# Altium footprint library PcbLib1.PcbLib: 29 footprints (part 2 of 2)
Each footprint in its own frame and in the unit in brackets; x right, y up, seen from the top. Pads: shape width x height; smd on the part's side, far side on the other; paste and mask are expansions set on the pad; w line width, h text height; cw(c..) or ccw(c..) is an arc to the next point about the centre after c.
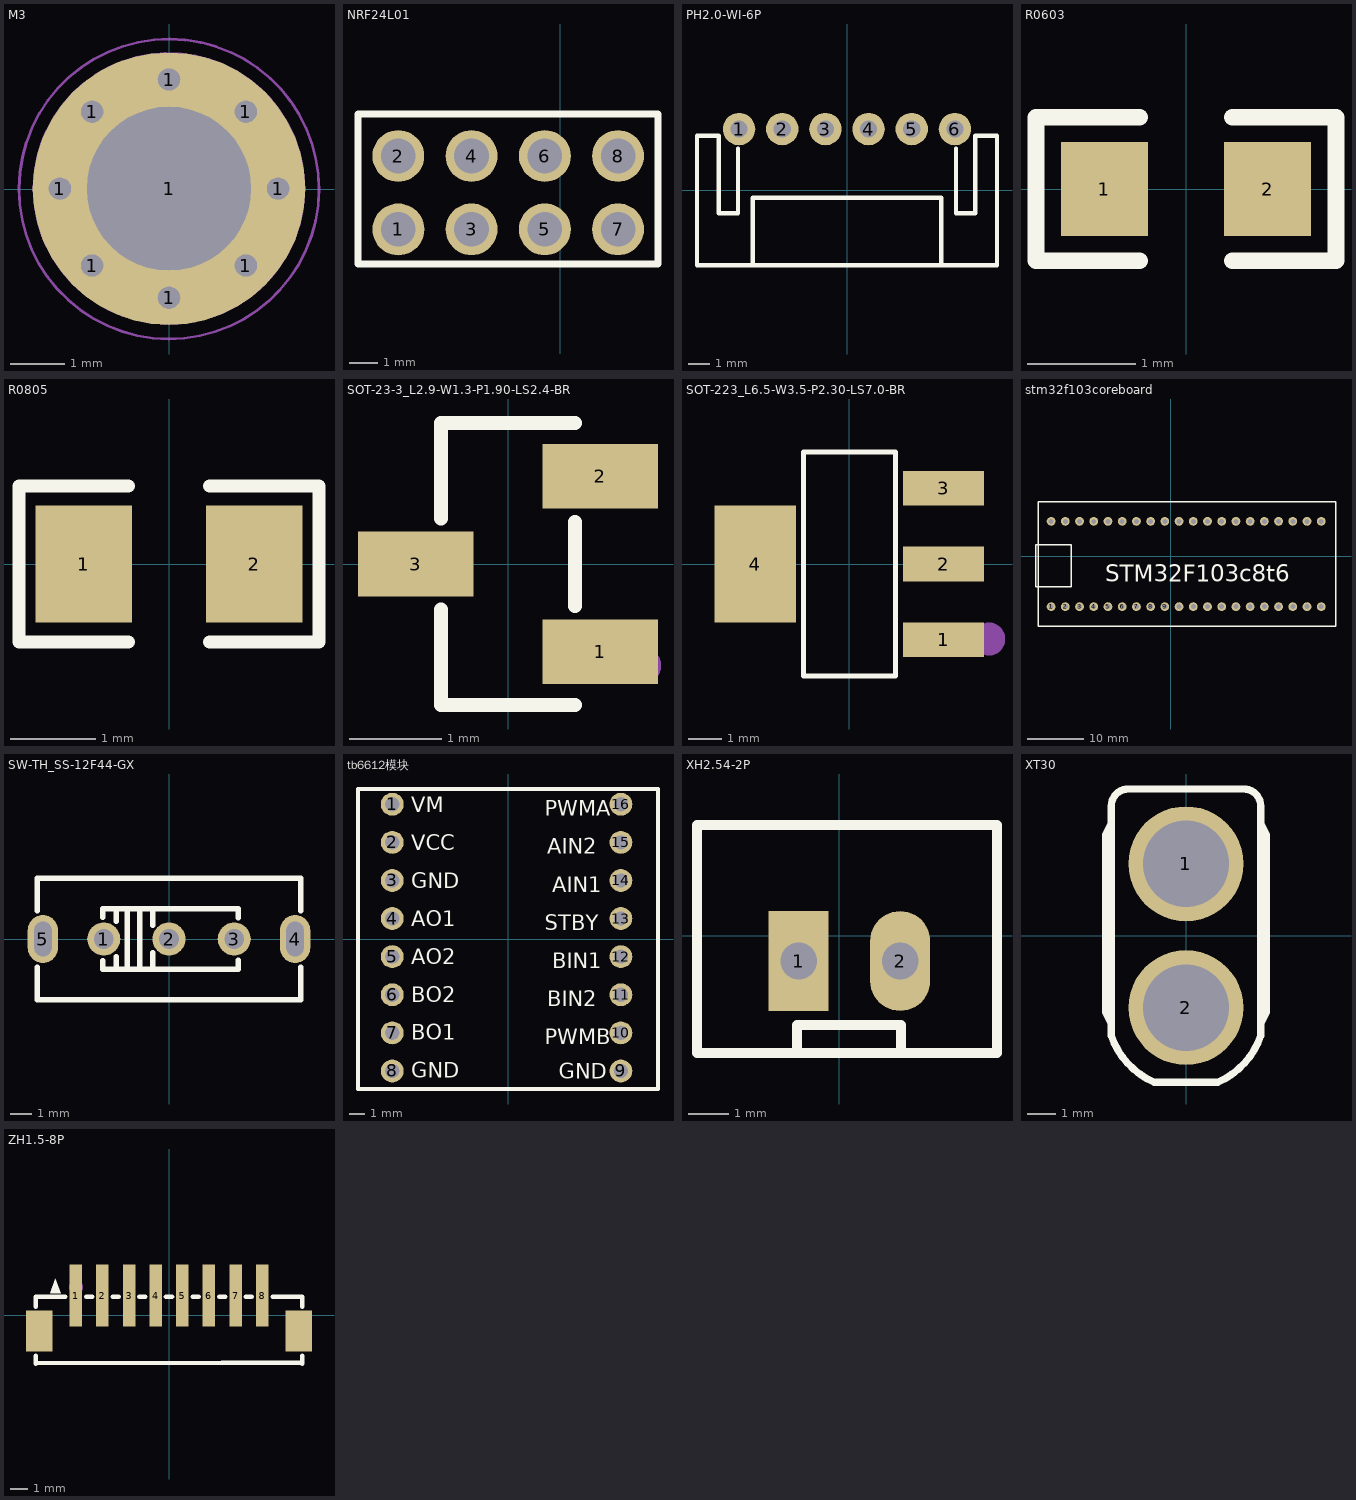
[diagram p1: the footprints below, top view; thin cyan lines are the x and y axes]

## M3 [mm]
pads (9):
  round 0.6 hole 0.4 slot 0.405 at 0 deg paste+0 mask+0.051: 1(-2,0.007) 1(-1.41,-1.403) 1(-1.41,1.417) 1(0,-1.993) 1(0,2.007) 1(1.41,-1.403) 1(1.41,1.417) 1(2,0.007)
  round 5 hole 3 slot 3.005 at 0 deg paste+0 mask+0.051: 1(0,0.007)
Mechanical 1:
  lines w0.05: -2.75,0.007 ccw(c0,0) -2.75,0.014 ; -0.35,0.007 0.35,0.007 ; -0.25,0.007 ccw(c0,0.007) -0.25,0.013 ; 0,-0.343 0,0.357
  lines w0.12: -2.44,0.007 ccw(c0,0.01) -2.44,0.013 cw(c0,0.01) -2.44,0.007 ; -1.44,0.007 ccw(c0,0.006) -1.44,0.015 cw(c0,0.006) -1.44,0.007

## NRF24L01 [mm]
pads (8):
  round 1.8 hole 1.2 paste+0 mask+0.051: 1(-5.606,-12.799) 2(-5.608,-10.256) 3(-3.068,-12.796) 4(-3.068,-10.256) 5(-0.528,-12.796) 6(-0.528,-10.256) 7(2.012,-12.796) 8(2.012,-10.256)
Top Overlay:
  lines w0.254: -7.004,-14 3.396,-14 3.396,-8.8 -7.004,-8.8 -7.004,-14

## PH2.0-WI-6P [mm]
pads (6):
  round 1.5 hole 0.8 paste+0 mask+0.051: 1(-5,2.826) 2(-3,2.826) 3(-1,2.826) 4(1,2.826) 5(3,2.826) 6(5,2.826)
Top Overlay:
  lines w0.203: -5.05,1.926 -5.05,-1.074 -5.95,-1.074 -5.95,-0.474 -5.95,2.526 -6,2.526 -6.95,2.526 -6.95,-3.474 6.95,-3.474 6.95,2.526 6,2.526 5.95,2.526 5.95,-0.474 5.95,-1.074 5.05,-1.074 5.05,1.926 ; -4.365,-3.389 -4.365,-0.349 4.365,-0.349 4.365,-3.389

## R0603 [mil]
pads (2):
  rect 31.75x34.02 smd paste-3937.01 mask+2: 1(-29.66,0) 2(29.66,0)
Top Overlay:
  lines w6: -16.78,-26.01 -54.53,-26.01 -54.53,26.01 -16.78,26.01 ; 16.78,-26.01 54.53,-26.01 54.53,26.01 16.78,26.01
Top Paste:
  region: -13.98,15.75 -13.98,6.77 -28.94,6.77 -28.94,-6.22 -13.98,-6.22 -13.98,-15.75 -15.94,-17.72 -47.05,-17.72 -49.02,-15.75 -49.02,15.75 -47.05,17.72 -15.94,17.72
  region: 47.05,17.72 15.55,17.72 13.58,15.75 13.58,6.77 28.15,6.77 28.15,-6.22 13.58,-6.22 13.58,-15.75 15.55,-17.72 47.05,-17.72 49.02,-15.75 49.02,15.75

## R0805 [mil]
pads (2):
  rect 44.59x54.21 smd paste-3937.01 mask+2: 1(-39.37,0) 2(39.37,0)
Top Overlay:
  lines w6: -18.75,-36.11 -69.34,-36.11 -69.34,36.11 -18.75,36.11 ; 18.75,-36.11 69.34,-36.11 69.34,36.11 18.75,36.11
Top Paste:
  region: 17.72,-25.2 17.72,-8.66 35.24,-8.66 35.24,9.05 17.91,9.05 17.72,25.2 19.68,27.16 64.96,27.16 66.93,25.2 66.93,-25.2 64.96,-27.17 19.68,-27.17
  region: -66.93,-25.2 -66.93,25.2 -64.96,27.16 -19.68,27.16 -17.72,25.2 -17.52,9.05 -35.24,9.05 -35.24,-8.66 -17.91,-8.66 -17.72,-25.2 -19.68,-27.17 -64.96,-27.17

## SOT-23-3_L2.9-W1.3-P1.90-LS2.4-BR [mm]
pads (3):
  rect 1.25x0.7 smd paste+0 mask+0.051: 1(1,-0.95) 2(1,0.95) 3(-1,0)
Top Overlay:
  lines w0.152: -0.726,-0.495 -0.726,-1.526 0.726,-1.526 ; -0.726,0.495 -0.726,1.526 0.726,1.526 ; 0.726,-0.455 0.726,0.455
Mechanical 15:
  circle w0.2: c1.46,-1.1 r0.1

## SOT-223_L6.5-W3.5-P2.30-LS7.0-BR [mm]
pads (4):
  rect 2.465x1.05 smd paste+0 mask+0.051: 1(2.857,-2.3) 2(2.857,0) 3(2.857,2.3)
  rect 2.465x3.54 smd paste+0 mask+0.051: 4(-2.857,0)
Top Overlay:
  lines w0.152: -1.396,-3.401 -1.396,3.401 1.396,3.401 1.396,-3.401 -1.396,-3.401
Mechanical 15:
  circle w0.5: c4.229,-2.277 r0.25

## stm32f103coreboard [mil]
pads (40):
  round 62 hole 35 paste+0 mask+4: 1(-841.69,-355) 2(-741.69,-355) 3(-641.69,-355) 4(-541.69,-355) 5(-441.69,-355) 6(-341.69,-355) 7(-241.69,-355) 8(-141.69,-355) 9(-41.69,-355) 10(58.31,-355) 11(158.31,-355) 12(258.31,-355) 13(358.31,-355) 14(458.31,-355) 15(558.31,-355) 16(658.31,-355) 17(758.31,-355) 18(858.31,-355) 19(958.31,-355) 20(1058.31,-355) 21(1058.31,245) 22(958.31,245) 23(858.31,245) 24(758.31,245) 25(658.31,245) 26(558.31,245) 27(458.31,245) 28(358.31,245) 29(258.31,245) 30(158.31,245) 31(58.31,245) 32(-41.69,245) 33(-141.69,245) 34(-241.69,245) 35(-341.69,245) 36(-441.69,245) 37(-541.69,245) 38(-641.69,245) 39(-741.69,245) 40(-841.69,245)
Top Overlay:
  lines w10: -947.99,-215 -947.99,80.28 -699.96,80.28 -699.96,-215 -947.99,-215 ; -932.24,-492.01 -932.24,382.01 1162.25,382.01 1162.25,-492.01 -932.24,-492.01
  text "STM32F103c8t6" at -460,-179.06 h118.11

## SW-TH_SS-12F44-GX [mm]
pads (5):
  round 1.524 hole 0.914 paste+0 mask+0.051: 1(-3,0) 2(0,0) 3(3,0)
  oval 1.4x2.2 hole 0.8 slot 1.6 at 90 deg paste+0 mask+0.051: 4(5.8,0) 5(-5.8,0)
Top Overlay:
  lines w0.254: -6.05,-1.297 -6.05,-2.8 6.05,-2.8 6.05,-1.297 ; -6.05,1.297 -6.05,2.8 6.05,2.8 6.05,1.297 ; -3.048,-0.992 -3.048,-1.397 3.175,-1.397 3.175,-0.978 ; -3.048,0.992 -3.048,1.397 3.175,1.397 3.175,0.978 ; -2.427,-1.397 -2.427,-0.81 ; -2.427,0.81 -2.427,1.397 ; -1.919,-1.397 -1.919,1.397 ; -1.356,-1.397 -1.356,1.397 ; -0.758,-1.397 -0.758,-0.641 ; -0.758,0.641 -0.758,1.397

## tb6612模块 [mil]
pads (16):
  round 60 hole 36 slot 36.2 at 0 deg paste+0 mask+2: 1(-303.7,353.7) 2(-303.7,253.7) 3(-303.7,153.7) 4(-303.7,53.7) 5(-303.7,-46.3) 6(-303.7,-146.3) 7(-303.7,-246.3) 8(-303.7,-346.3) 9(296.3,-346.3) 10(296.3,-246.3) 11(296.3,-146.3) 12(296.3,-46.3) 13(296.3,53.7) 14(296.3,153.7) 15(296.3,253.7) 16(296.3,353.7)
Top Overlay:
  lines w10: -393.7,-393.7 -393.7,393.7 393.7,393.7 393.7,-393.7 -393.7,-393.7
  text "VCC" at -253.7,233.32 h40
  text "AO1" at -253.7,33.96 h40
  text "AO2" at -253.7,-65.72 h40
  text "VM" at -253.7,333 h40
  text "GND" at -253.7,-364.76 h40
  text "GND" at 133,-367 h40
  text "PWMB" at 96.3,-276.4 h40
  text "BIN2" at 102.96,-176.5 h40
  text "BIN1" at 116.29,-76.6 h40
  text "STBY" at 96.3,23.3 h40
  text "AIN1" at 116.29,123.2 h40
  text "AIN2" at 102.96,223.1 h40
  text "PWMA" at 96.3,323 h40
  text "GND" at -253.7,133.64 h40
  text "BO2" at -253.7,-165.4 h40
  text "BO1" at -253.7,-265.08 h40

## XH2.54-2P [mm]
pads (2):
  rect 1.5x2.5 hole 0.914 paste+0 mask+0.102: 1(-1.016,-0.635)
  oval 1.5x2.5 hole 0.914 paste+0 mask+0.102: 2(1.523,-0.635)
Top Overlay:
  lines w0.254: -3.557,-2.935 3.944,-2.935 3.944,2.765 -3.557,2.765 -3.557,-2.935 ; -1.056,-2.935 1.544,-2.935 1.544,-2.235 -1.056,-2.235 -1.056,-2.935

## XT30 [mm]
pads (2):
  round 4 hole 3 paste+0 mask+0.102: 1(0,2.5) 2(0,-2.5)
Top Overlay:
  lines w0.254: -2.6,-3.05 -2.8,-2.65 -2.8,3.5 -2.6,3.9 ; 2.6,-3.05 2.8,-2.65 2.8,3.5 2.6,3.9 ; -2.6,-3.475 ccw(c0,-2.58) -1.1,-5.1 1.1,-5.1 ccw(c0,-2.58) 2.6,-3.475 2.6,4.5 ccw(c2,4.5) 2,5.1 -2,5.1 ccw(c-2,4.5) -2.6,4.5 -2.6,-3.475

## ZH1.5-8P [mm]
pads (10):
  rect 0.7x3.5 smd paste+0 mask+0.051: 1(-5.25,1.104) 2(-3.75,1.104) 3(-2.25,1.104) 4(-0.75,1.104) 5(0.75,1.104) 6(2.25,1.104) 7(3.75,1.104) 8(5.25,1.104)
  rect 1.5x2.3 smd paste+0 mask+0.051: ""(-7.3,-0.896) ""(7.3,-0.896)
Top Overlay:
  region: -6.7,1.244 -6.1,1.244 -6.4,2.044
  lines w0.254: -7.5,-2.727 -7.5,-2.277 ; -7.5,0.485 -7.5,1.023 -5.831,1.023 ; -7.478,-2.716 2.979,-2.695 7.5,-2.695 ; -4.669,1.023 -4.331,1.023 ; -3.169,1.023 -2.831,1.023 ; -1.669,1.023 -1.331,1.023 ; -0.169,1.023 0.169,1.023 ; 1.331,1.023 1.669,1.023 ; 2.831,1.023 3.169,1.023 ; 4.331,1.023 4.669,1.023 ; 6.169,1.023 5.831,1.023 7.5,1.023 7.5,0.485 ; 7.5,-2.727 7.5,-2.277
Mechanical 15:
  circle w0.4: c-5.236,1.579 r0.2